# Altium schematic symbol library HT-HC02.SchLib: 1 symbol
Pins are listed as number, name and electrical type; pins without a type are passive.

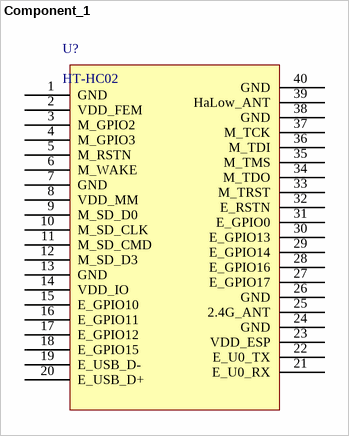
[diagram p0: symbol Component_1]

## Component_1
designator U?, comment HT-HC02
pins: 1 GND, 2 VDD_FEM, 3 M_GPIO2, 4 M_GPIO3, 5 M_RSTN, 6 M_WAKE, 7 GND, 8 VDD_MM, 9 M_SD_D0, 10 M_SD_CLK, 11 M_SD_CMD, 12 M_SD_D3, 13 GND, 14 VDD_IO, 15 E_GPIO10, 16 E_GPIO11, 17 E_GPIO12, 18 E_GPIO15, 19 E_USB_D-, 20 E_USB_D+, 21 E_U0_RX, 22 E_U0_TX, 23 VDD_ESP, 24 GND, 25 2.4G_ANT, 26 GND, 27 E_GPIO17, 28 E_GPIO16, 29 E_GPIO14, 30 E_GPIO13, 31 E_GPIO0, 32 E_RSTN, 33 M_TRST, 34 M_TDO, 35 M_TMS, 36 M_TDI, 37 M_TCK, 38 GND, 39 HaLow_ANT, 40 GND